# Altium footprint library Seeed Xiao SMD21.PcbLib: 1 footprints
Each footprint in its own frame and in the unit in brackets; x right, y up, seen from the top. Pads: shape width x height; smd on the part's side, far side on the other; paste and mask are expansions set on the pad; w line width, h text height; cw(c..) or ccw(c..) is an arc to the next point about the centre after c.
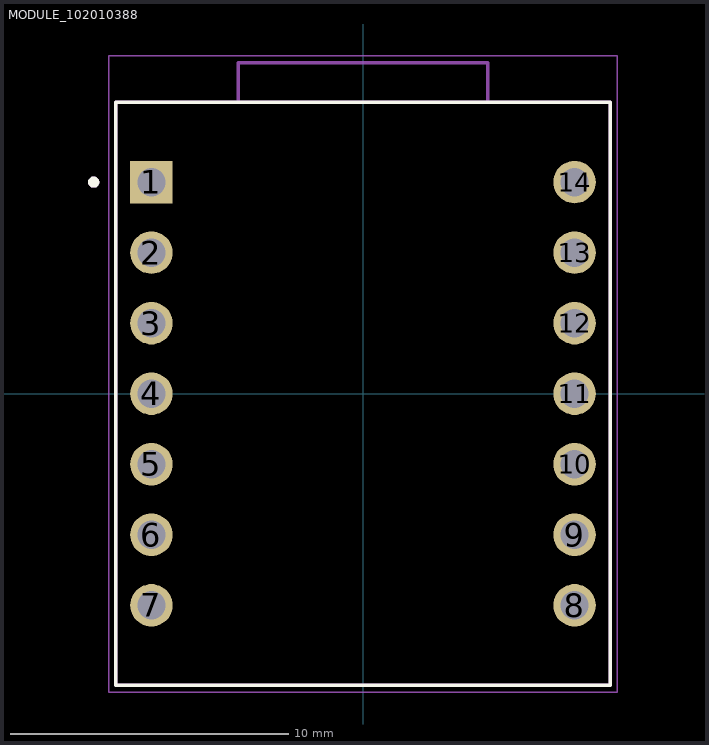
[diagram p0: the footprint, top view; thin cyan lines are the x and y axes]

## MODULE_102010388 [mm]
pads (14):
  rect 1.53x1.53 / inner round 1.53 / far side rect 1.53x1.53 hole 1.02: 1(-7.62,7.62)
  round 1.53 hole 1.02: 2(-7.62,5.08) 3(-7.62,2.54) 4(-7.62,0) 5(-7.62,-2.54) 6(-7.62,-5.08) 7(-7.62,-7.62) 8(7.62,-7.62) 9(7.62,-5.08) 10(7.62,-2.54) 11(7.62,0) 12(7.62,2.54) 13(7.62,5.08) 14(7.62,7.62)
Top Overlay:
  circle w0.2: c-9.7,7.62 r0.1
  lines w0.127: -8.9,-10.5 8.9,-10.5 8.9,10.5 -8.9,10.5 -8.9,-10.5
Mechanical 13:
  circle w0.2: c-9.7,7.62 r0.1
  lines w0.127: -4.5,10.5 4.5,10.5 ; -4.5,10.5 -8.9,10.5 -8.9,-10.5 8.9,-10.5 8.9,10.5 4.5,10.5 ; -4.5,10.5 -4.5,11.92 4.5,11.92 4.5,10.5
Mechanical 15:
  lines w0.05: -9.15,-10.75 9.15,-10.75 9.15,12.17 -9.15,12.17 -9.15,-10.75